# Altium footprint library PcbLib1.PcbLib: 4 footprints
Each footprint in its own frame and in the unit in brackets; x right, y up, seen from the top. Pads: shape width x height; smd on the part's side, far side on the other; paste and mask are expansions set on the pad; w line width, h text height; cw(c..) or ccw(c..) is an arc to the next point about the centre after c.
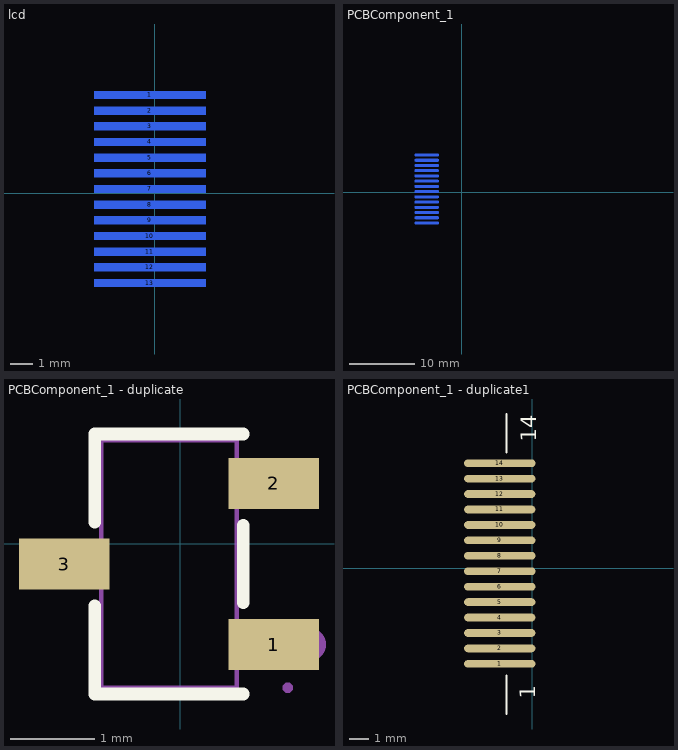
[diagram p0: the footprints below, top view; thin cyan lines are the x and y axes]

## lcd [mm]
pads (13):
  rect 5x0.35 smd far side: 1(-0.206,4.39) 2(-0.206,3.69) 3(-0.206,2.99) 4(-0.206,2.29) 5(-0.206,1.59) 6(-0.206,0.89) 7(-0.206,0.19) 8(-0.206,-0.51) 9(-0.206,-1.21) 10(-0.206,-1.91) 11(-0.206,-2.61) 12(-0.206,-3.31) 13(-0.206,-4.01)
Bottom Overlay:
  lines w0.2: -1.006,-5.11 -1.006,-6.01 3.994,-6.01 3.994,-4.31 ; -1.006,5.49 -1.006,6.39 3.994,6.39 3.994,4.69

## PCBComponent_1 [mm]
pads (14):
  oval 3.7x0.4 smd far side: 1(-5.353,5.708) 2(-5.353,4.908) 3(-5.353,4.108) 4(-5.353,3.308) 5(-5.353,2.508) 6(-5.353,1.708) 7(-5.353,0.908) 8(-5.353,0.108) 9(-5.353,-0.692) 10(-5.353,-1.492) 11(-5.353,-2.292) 12(-5.353,-3.092) 13(-5.353,-3.892) 14(-5.353,-4.692)
Bottom Overlay:
  lines w0.1: -5.003,-7.242 -5.003,-5.242 ; -5.003,6.308 -5.003,8.308 ; -15.853,-16.492 -15.853,17.508 29.997,17.508 29.997,-16.492 -15.853,-16.492
  text "1" at -3.503,7.508 h0.8
  text "14" at -3.453,-5.792 h0.8

## PCBComponent_1 - duplicate [mm]
pads (3):
  rect 1.07x0.6 smd mask+0.051: 1(1.1,-1.192) 2(1.1,0.708) 3(-1.37,-0.242)
Top Overlay:
  lines w0.152: -1.011,-0.736 -1.011,-1.778 0.741,-1.778 ; -1.011,0.253 -1.011,1.294 0.741,1.294 ; 0.741,-0.697 0.741,0.214
Mechanical 6:
  circle w0.2: c1.516,-1.192 r0.1
Mechanical 15:
  region: 1.325,-1.702 1.325,-1.677 1.29,-1.642 1.24,-1.642 1.205,-1.677 1.205,-1.702 1.205,-1.727 1.24,-1.762 1.29,-1.762 1.325,-1.727
  region: 0.815,-1.392 0.815,-0.992 1.265,-0.992 1.265,-1.392
  region: 0.655,-1.392 0.655,-0.992 0.825,-0.992 0.825,-1.392
  region: 0.815,0.508 0.815,0.908 1.265,0.908 1.265,0.508
  region: 0.655,0.508 0.655,0.908 0.825,0.908 0.825,0.508
  region: -1.085,-0.442 -1.085,-0.042 -1.535,-0.042 -1.535,-0.442
  region: -1.095,-0.442 -1.095,-0.042 -0.925,-0.042 -0.925,-0.442
  lines w0.051: -0.935,-1.702 -0.935,1.218 0.665,1.218 0.665,-1.702 -0.935,-1.702

## PCBComponent_1 - duplicate1 [mm]
pads (14):
  oval 3.7x0.4 smd: 1(-1.67,-4.946) 2(-1.67,-4.146) 3(-1.67,-3.346) 4(-1.67,-2.546) 5(-1.67,-1.746) 6(-1.67,-0.946) 7(-1.67,-0.146) 8(-1.67,0.654) 9(-1.67,1.454) 10(-1.67,2.254) 11(-1.67,3.054) 12(-1.67,3.854) 13(-1.67,4.654) 14(-1.67,5.454)
Top Overlay:
  lines w0.1: -1.32,-7.546 -1.32,-5.546 ; -1.32,6.004 -1.32,8.004
  text "1" at 0.18,-6.746 h0.8
  text "14" at 0.23,6.554 h0.8